# EAGLE library part EPM7256-RQ208 (library altera)
EPM7256E MAX 7000 family
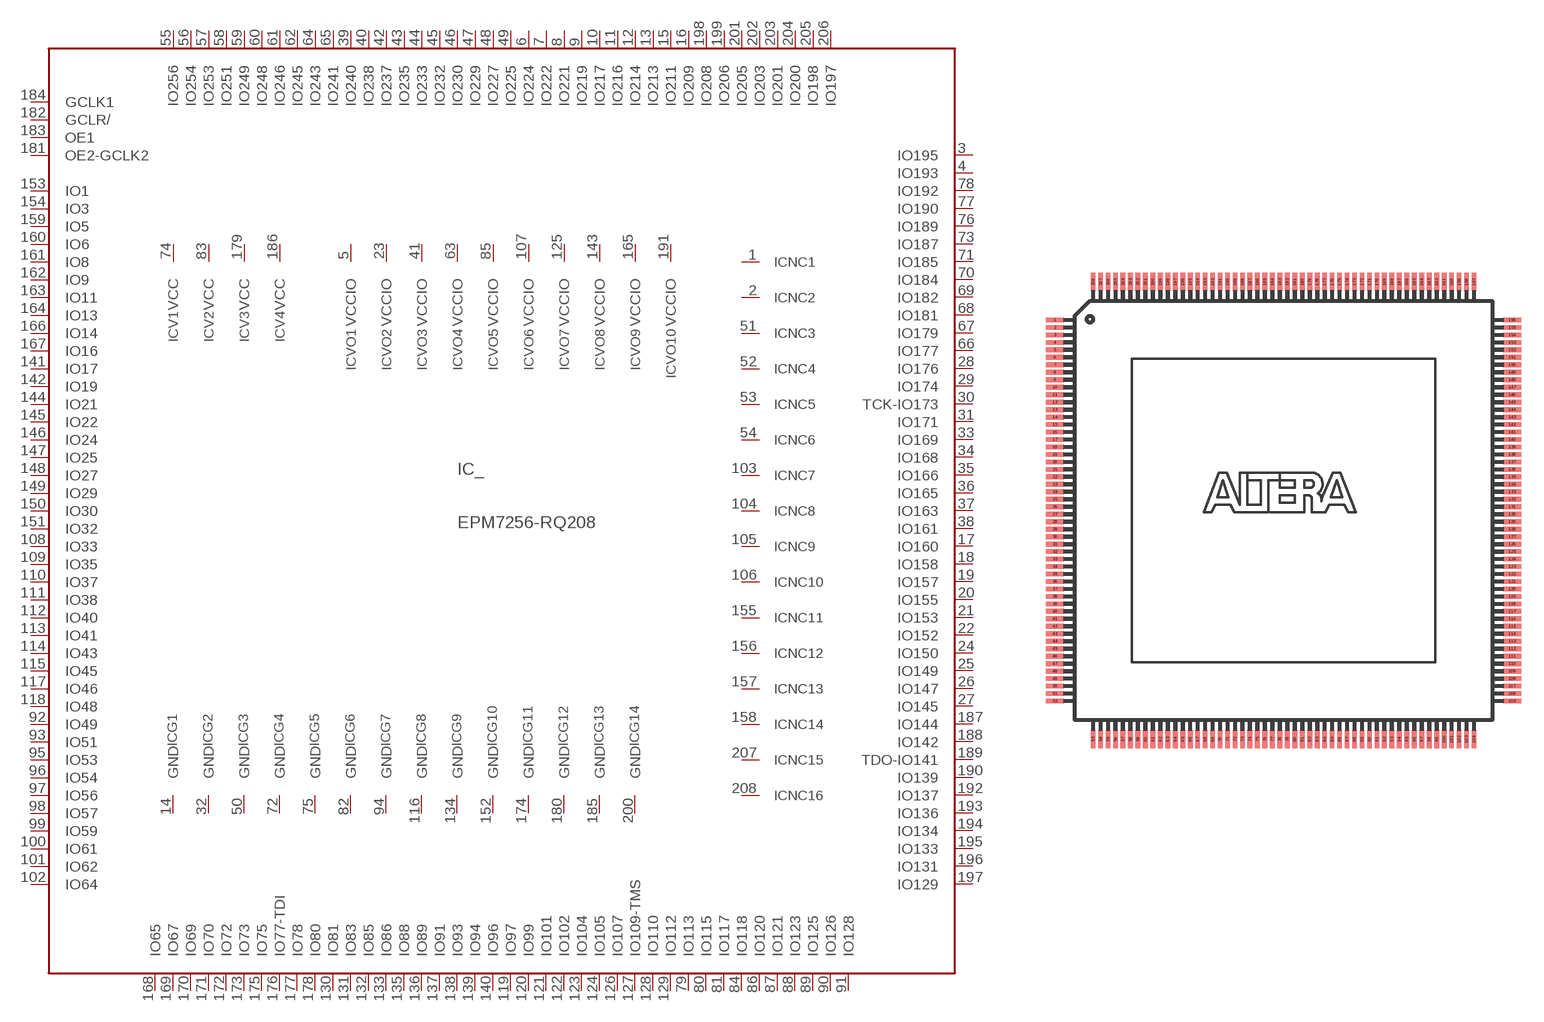
[diagram p12: symbol with the pads of RQFP208; footprint RQFP208]

Designator prefix IC; gates _=7256R208 G1=GND G2=GND G3=GND G4=GND G5=GND G6=GND G7=GND G8=GND G9=GND G10=GND G11=GND G12=GND G13=GND G14=GND V1=VCCINT V2=VCCINT V3=VCCINT V4=VCCINT VO1=VCCIO VO2=VCCIO VO3=VCCIO VO4=VCCIO VO5=VCCIO VO6=VCCIO VO7=VCCIO VO8=VCCIO VO9=VCCIO VO10=VCCIO NC1=NC NC2=NC NC3=NC NC4=NC NC5=NC NC6=NC NC7=NC NC8=NC NC9=NC NC10=NC NC11=NC NC12=NC NC13=NC NC14=NC NC15=NC NC16=NC

## EPM7256-RQ208 (MPN: EPM7256AEQC208-10N; OC_FARNELL: 1549440; OC_NEWARK: 51R9842)  [RQFP208]
1  NC1:NC  nc
2  NC2:NC  nc
3  _:IO195
4  _:IO193
5  VO1:VCCIO  pwr
6  _:IO224
7  _:IO222
8  _:IO221
9  _:IO219
10  _:IO217
11  _:IO216
12  _:IO214
13  _:IO213
14  G1:GND  pwr
15  _:IO211
16  _:IO209
17  _:IO160
18  _:IO158
19  _:IO157
20  _:IO155
21  _:IO153
22  _:IO152
23  VO2:VCCIO  pwr
24  _:IO150
25  _:IO149
26  _:IO147
27  _:IO145
28  _:IO176
29  _:IO174
30  _:TCK-IO173
31  _:IO171
32  G2:GND  pwr
33  _:IO169
34  _:IO168
35  _:IO166
36  _:IO165
37  _:IO163
38  _:IO161
39  _:IO240
40  _:IO238
41  VO3:VCCIO  pwr
42  _:IO237
43  _:IO235
44  _:IO233
45  _:IO232
46  _:IO230
47  _:IO229
48  _:IO227
49  _:IO225
50  G3:GND  pwr
51  NC3:NC  nc
52  NC4:NC  nc
53  NC5:NC  nc
54  NC6:NC  nc
55  _:IO256
56  _:IO254
57  _:IO253
58  _:IO251
59  _:IO249
60  _:IO248
61  _:IO246
62  _:IO245
63  VO4:VCCIO  pwr
64  _:IO243
65  _:IO241
66  _:IO177
67  _:IO179
68  _:IO181
69  _:IO182
70  _:IO184
71  _:IO185
72  G4:GND  pwr
73  _:IO187
74  V1:VCC  pwr
75  G5:GND  pwr
76  _:IO189
77  _:IO190
78  _:IO192
79  _:IO113
80  _:IO115
81  _:IO117
82  G6:GND  pwr
83  V2:VCC  pwr
84  _:IO118
85  VO5:VCCIO  pwr
86  _:IO120
87  _:IO121
88  _:IO123
89  _:IO125
90  _:IO126
91  _:IO128
92  _:IO49
93  _:IO51
94  G7:GND  pwr
95  _:IO53
96  _:IO54
97  _:IO56
98  _:IO57
99  _:IO59
100  _:IO61
101  _:IO62
102  _:IO64
103  NC7:NC  nc
104  NC8:NC  nc
105  NC9:NC  nc
106  NC10:NC  nc
107  VO6:VCCIO  pwr
108  _:IO33
109  _:IO35
110  _:IO37
111  _:IO38
112  _:IO40
113  _:IO41
114  _:IO43
115  _:IO45
116  G8:GND  pwr
117  _:IO46
118  _:IO48
119  _:IO97
120  _:IO99
121  _:IO101
122  _:IO102
123  _:IO104
124  _:IO105
125  VO7:VCCIO  pwr
126  _:IO107
127  _:IO109-TMS
128  _:IO110
129  _:IO112
130  _:IO81
131  _:IO83
132  _:IO85
133  _:IO86
134  G9:GND  pwr
135  _:IO88
136  _:IO89
137  _:IO91
138  _:IO93
139  _:IO94
140  _:IO96
141  _:IO17
142  _:IO19
143  VO8:VCCIO  pwr
144  _:IO21
145  _:IO22
146  _:IO24
147  _:IO25
148  _:IO27
149  _:IO29
150  _:IO30
151  _:IO32
152  G10:GND  pwr
153  _:IO1
154  _:IO3
155  NC11:NC  nc
156  NC12:NC  nc
157  NC13:NC  nc
158  NC14:NC  nc
159  _:IO5
160  _:IO6
161  _:IO8
162  _:IO9
163  _:IO11
164  _:IO13
165  VO9:VCCIO  pwr
166  _:IO14
167  _:IO16
168  _:IO65
169  _:IO67
170  _:IO69
171  _:IO70
172  _:IO72
173  _:IO73
174  G11:GND  pwr
175  _:IO75
176  _:IO77-TDI
177  _:IO78
178  _:IO80
179  V3:VCC  pwr
180  G12:GND  pwr
181  _:OE2-GCLK2  in
182  _:GCLR/  in
183  _:OE1  in
184  _:GCLK1  in
185  G13:GND  pwr
186  V4:VCC  pwr
187  _:IO144
188  _:IO142
189  _:TDO-IO141
190  _:IO139
191  VO10:VCCIO  pwr
192  _:IO137
193  _:IO136
194  _:IO134
195  _:IO133
196  _:IO131
197  _:IO129
198  _:IO208
199  _:IO206
200  G14:GND  pwr
201  _:IO205
202  _:IO203
203  _:IO201
204  _:IO200
205  _:IO198
206  _:IO197
207  NC15:NC  nc
208  NC16:NC  nc

## Footprint RQFP208 (pad centres in mm)
Power Quad Flat Pack
smd 1.2 x 0.32: 1 -15.3,12.75; 2 -15.3,12.25; 3 -15.3,11.75; 4 -15.3,11.25; 5 -15.3,10.75; 6 -15.3,10.25; 7 -15.3,9.75; 8 -15.3,9.25; 9 -15.3,8.75; 10 -15.3,8.25; 11 -15.3,7.75; 12 -15.3,7.25; 13 -15.3,6.75; 14 -15.3,6.25; 15 -15.3,5.75; 16 -15.3,5.25; 17 -15.3,4.75; 18 -15.3,4.25; 19 -15.3,3.75; 20 -15.3,3.25; 21 -15.3,2.75; 22 -15.3,2.25; 23 -15.3,1.75; 24 -15.3,1.25; 25 -15.3,0.75; 26 -15.3,0.25; 27 -15.3,-0.25; 28 -15.3,-0.75; 29 -15.3,-1.25; 30 -15.3,-1.75; 31 -15.3,-2.25; 32 -15.3,-2.75; 33 -15.3,-3.25; 34 -15.3,-3.75; 35 -15.3,-4.25; 36 -15.3,-4.75; 37 -15.3,-5.25; 38 -15.3,-5.75; 39 -15.3,-6.25; 40 -15.3,-6.75; 41 -15.3,-7.25; 42 -15.3,-7.75; 43 -15.3,-8.25; 44 -15.3,-8.75; 45 -15.3,-9.25; 46 -15.3,-9.75; 47 -15.3,-10.25; 48 -15.3,-10.75; 49 -15.3,-11.25; 50 -15.3,-11.75; 51 -15.3,-12.25; 52 -15.3,-12.75; 105 15.3,-12.75; 106 15.3,-12.25; 107 15.3,-11.75; 108 15.3,-11.25; 109 15.3,-10.75; 110 15.3,-10.25; 111 15.3,-9.75; 112 15.3,-9.25; 113 15.3,-8.75; 114 15.3,-8.25; 115 15.3,-7.75; 116 15.3,-7.25; 117 15.3,-6.75; 118 15.3,-6.25; 119 15.3,-5.75; 120 15.3,-5.25; 121 15.3,-4.75; 122 15.3,-4.25; 123 15.3,-3.75; 124 15.3,-3.25; 125 15.3,-2.75; 126 15.3,-2.25; 127 15.3,-1.75; 128 15.3,-1.25; 129 15.3,-0.75; 130 15.3,-0.25; 131 15.3,0.25; 132 15.3,0.75; 133 15.3,1.25; 134 15.3,1.75; 135 15.3,2.25; 136 15.3,2.75; 137 15.3,3.25; 138 15.3,3.75; 139 15.3,4.25; 140 15.3,4.75; 141 15.3,5.25; 142 15.3,5.75; 143 15.3,6.25; 144 15.3,6.75; 145 15.3,7.25; 146 15.3,7.75; 147 15.3,8.25; 148 15.3,8.75; 149 15.3,9.25; 150 15.3,9.75; 151 15.3,10.25; 152 15.3,10.75; 153 15.3,11.25; 154 15.3,11.75; 155 15.3,12.25; 156 15.3,12.75
smd 0.32 x 1.2: 53 -12.75,-15.3; 54 -12.25,-15.3; 55 -11.75,-15.3; 56 -11.25,-15.3; 57 -10.75,-15.3; 58 -10.25,-15.3; 59 -9.75,-15.3; 60 -9.25,-15.3; 61 -8.75,-15.3; 62 -8.25,-15.3; 63 -7.75,-15.3; 64 -7.25,-15.3; 65 -6.75,-15.3; 66 -6.25,-15.3; 67 -5.75,-15.3; 68 -5.25,-15.3; 69 -4.75,-15.3; 70 -4.25,-15.3; 71 -3.75,-15.3; 72 -3.25,-15.3; 73 -2.75,-15.3; 74 -2.25,-15.3; 75 -1.75,-15.3; 76 -1.25,-15.3; 77 -0.75,-15.3; 78 -0.25,-15.3; 79 0.25,-15.3; 80 0.75,-15.3; 81 1.25,-15.3; 82 1.75,-15.3; 83 2.25,-15.3; 84 2.75,-15.3; 85 3.25,-15.3; 86 3.75,-15.3; 87 4.25,-15.3; 88 4.75,-15.3; 89 5.25,-15.3; 90 5.75,-15.3; 91 6.25,-15.3; 92 6.75,-15.3; 93 7.25,-15.3; 94 7.75,-15.3; 95 8.25,-15.3; 96 8.75,-15.3; 97 9.25,-15.3; 98 9.75,-15.3; 99 10.25,-15.3; 100 10.75,-15.3; 101 11.25,-15.3; 102 11.75,-15.3; 103 12.25,-15.3; 104 12.75,-15.3; 157 12.75,15.3; 158 12.25,15.3; 159 11.75,15.3; 160 11.25,15.3; 161 10.75,15.3; 162 10.25,15.3; 163 9.75,15.3; 164 9.25,15.3; 165 8.75,15.3; 166 8.25,15.3; 167 7.75,15.3; 168 7.25,15.3; 169 6.75,15.3; 170 6.25,15.3; 171 5.75,15.3; 172 5.25,15.3; 173 4.75,15.3; 174 4.25,15.3; 175 3.75,15.3; 176 3.25,15.3; 177 2.75,15.3; 178 2.25,15.3; 179 1.75,15.3; 180 1.25,15.3; 181 0.75,15.3; 182 0.25,15.3; 183 -0.25,15.3; 184 -0.75,15.3; 185 -1.25,15.3; 186 -1.75,15.3; 187 -2.25,15.3; 188 -2.75,15.3; 189 -3.25,15.3; 190 -3.75,15.3; 191 -4.25,15.3; 192 -4.75,15.3; 193 -5.25,15.3; 194 -5.75,15.3; 195 -6.25,15.3; 196 -6.75,15.3; 197 -7.25,15.3; 198 -7.75,15.3; 199 -8.25,15.3; 200 -8.75,15.3; 201 -9.25,15.3; 202 -9.75,15.3; 203 -10.25,15.3; 204 -10.75,15.3; 205 -11.25,15.3; 206 -11.75,15.3; 207 -12.25,15.3; 208 -12.75,15.3